# Altium footprint library Keebs.PcbLib: 219 footprints (part 8 of 14)
Each footprint in its own frame and in the unit in brackets; x right, y up, seen from the top. Pads: shape width x height; smd on the part's side, far side on the other; paste and mask are expansions set on the pad; w line width, h text height; cw(c..) or ccw(c..) is an arc to the next point about the centre after c.
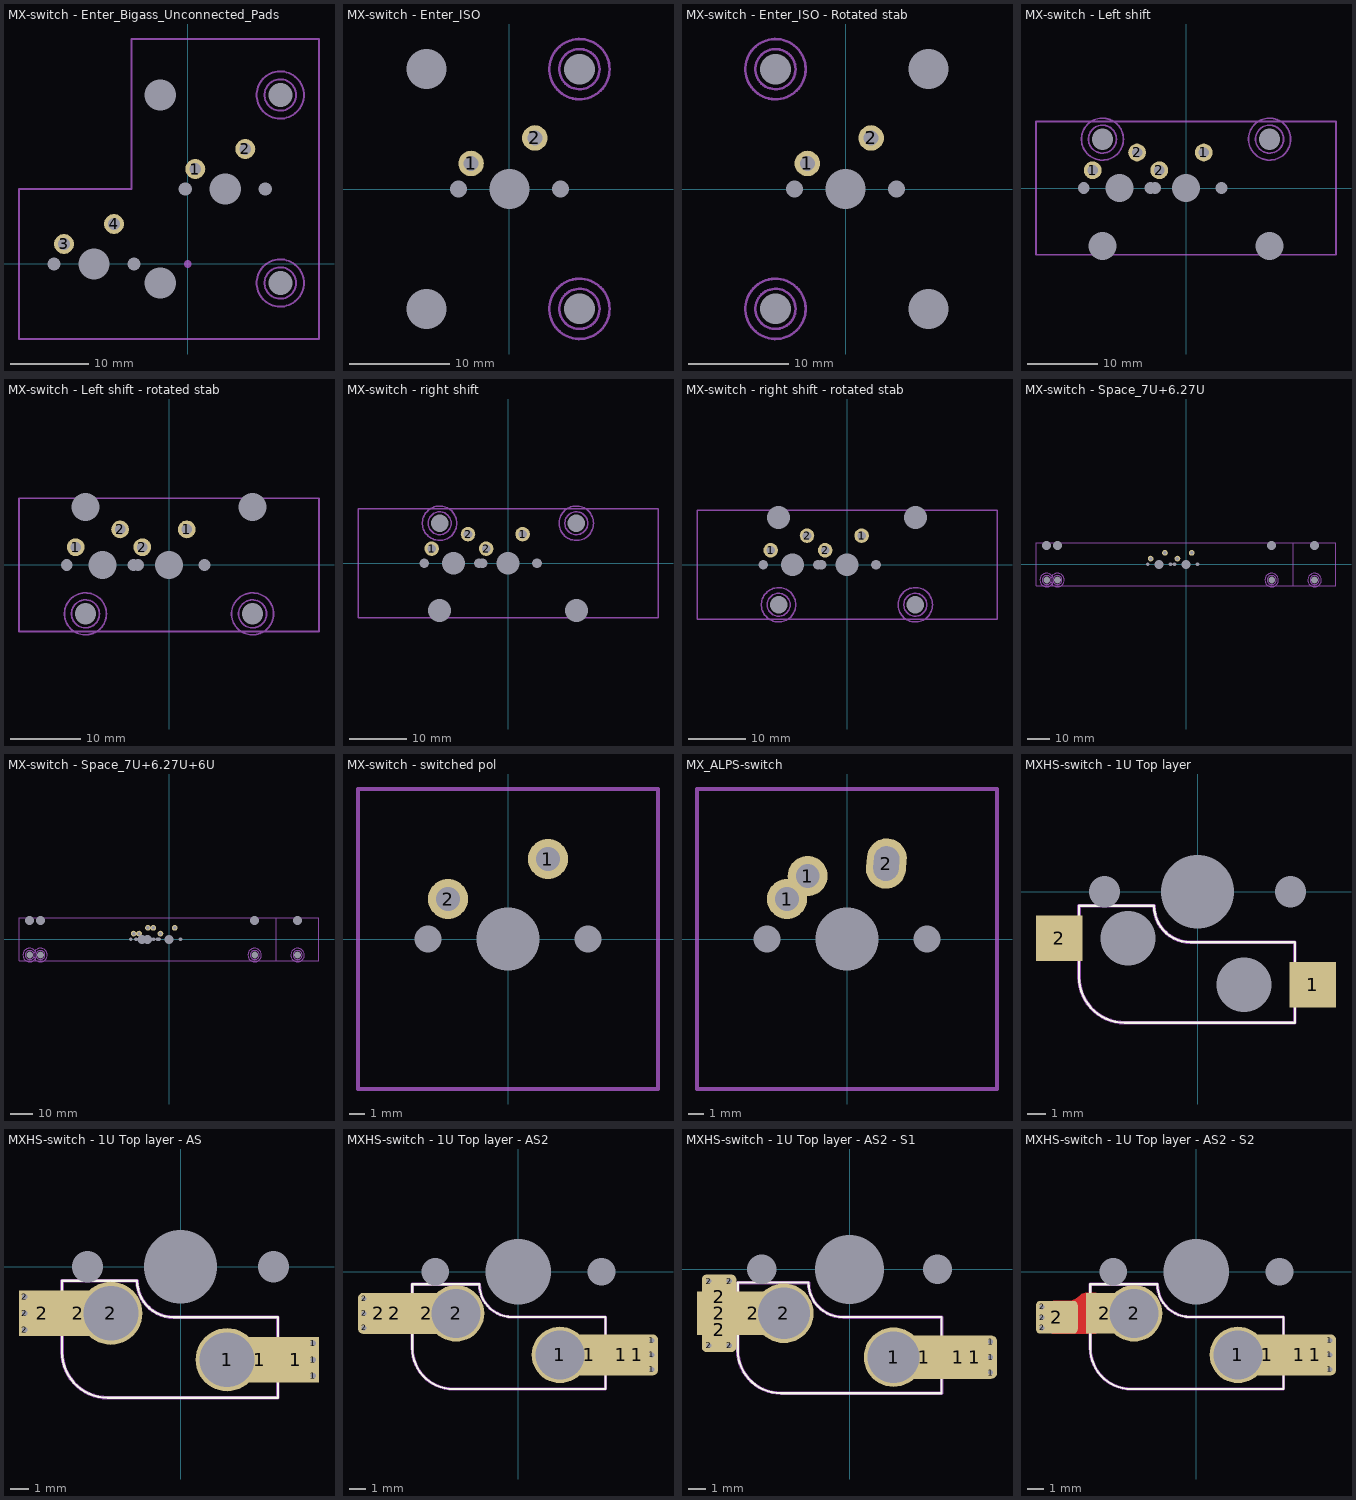
[diagram p7: the footprints below, top view; thin cyan lines are the x and y axes]

## MX-switch - Enter_Bigass_Unconnected_Pads [mm]
pads (20):
  round 2.54 hole 1.5 mask-0.5: 1(0.953,12.065) 2(7.302,14.605) 3(-15.716,2.54) 4(-9.366,5.08)
  round 1 hole 1.7 unplated: ""(-16.986,0) ""(-6.826,0) ""(-0.318,9.525) ""(9.842,9.525)
  round 1 hole 4 unplated: ""(-11.906,0) ""(4.763,9.525)
  round 1 on Mech13: ""(-11.906,0) ""(-11.906,0) ""(0,0) ""(0,0) ""(4.763,9.525) ""(4.763,9.525)
  round 1.524 hole 4 unplated: ""(-3.492,-2.413) ""(-3.492,21.463)
  round 1.524 hole 3.048 unplated: ""(11.747,-2.413) ""(11.747,21.463)
Mechanical 13:
  lines w0.254: -21.431,-9.525 -21.431,9.525 -7.144,9.525 -7.144,28.575 16.669,28.575 16.669,-9.525 -21.431,-9.525
  text ".Designator" at -3.683,-9.017 h0.7
Mechanical 15:
  circle w0.254: c11.747,21.463 r3
  circle w0.254: c11.747,21.463 r2
  circle w0.254: c11.747,-2.413 r3
  circle w0.254: c11.747,-2.413 r2

## MX-switch - Enter_ISO [mm]
pads (10):
  round 2.54 hole 1.5 mask-0.5: 1(-3.81,2.54) 2(2.54,5.08)
  round 1.524 hole 4 unplated: ""(-8.255,-11.938) ""(-8.255,11.938)
  round 1 hole 1.7 unplated: ""(-5.08,0) ""(5.08,0)
  round 1 hole 4 unplated: ""(0,0)
  round 1 on Mech13: ""(0,0)
  round 1.524 hole 3.048 unplated: ""(6.985,-11.938) ""(6.985,11.938)
Mechanical 13:
  text ".Designator" at -1.68,-7.73 h0.7
Mechanical 15:
  circle w0.254: c6.985,11.938 r3
  circle w0.254: c6.985,11.938 r2
  circle w0.254: c6.985,-11.938 r3
  circle w0.254: c6.985,-11.938 r2

## MX-switch - Enter_ISO - Rotated stab [mm]
pads (10):
  round 2.54 hole 1.5 mask-0.5: 1(-3.81,2.54) 2(2.54,5.08)
  round 1.524 hole 3.048 unplated: ""(-6.985,-11.938) ""(-6.985,11.938)
  round 1 hole 1.7 unplated: ""(-5.08,0) ""(5.08,0)
  round 1 hole 4 unplated: ""(0,0)
  round 1 on Mech13: ""(0,0)
  round 1.524 hole 4 unplated: ""(8.255,-11.938) ""(8.255,11.938)
Mechanical 13:
  text ".Designator" at -1.68,-7.73 h0.7
Mechanical 15:
  circle w0.254: c-6.985,-11.938 r3
  circle w0.254: c-6.985,-11.938 r2
  circle w0.254: c-6.985,11.938 r3
  circle w0.254: c-6.985,11.938 r2

## MX-switch - Left shift [mm]
pads (16):
  round 2.54 hole 1.5 mask-0.5: 1(-13.335,2.54) 1(2.54,5.08) 2(-6.985,5.08) 2(-3.81,2.54)
  round 1 hole 1.7 unplated: ""(-14.605,0) ""(-5.08,0) ""(-4.445,0) ""(5.08,0)
  round 1.524 hole 4 unplated: ""(-11.938,-8.255) ""(11.938,-8.255)
  round 1.524 hole 3.048 unplated: ""(-11.938,6.985) ""(11.938,6.985)
  round 1 hole 4 unplated: ""(-9.525,0) ""(0,0)
  round 1 on Mech13: ""(-9.525,0) ""(0,0)
Mechanical 13:
  lines w0.254: -21.431,-9.525 21.431,-9.525 21.431,9.525 -21.431,9.525 -21.431,-9.525
  text ".Designator" at -5.45,-3.925 h0.7
Mechanical 15:
  circle w0.254: c11.938,6.985 r3
  circle w0.254: c11.938,6.985 r2
  circle w0.254: c-11.938,6.985 r3
  circle w0.254: c-11.938,6.985 r2

## MX-switch - Left shift - rotated stab [mm]
pads (16):
  round 2.54 hole 1.5 mask-0.5: 1(-13.335,2.54) 1(2.54,5.08) 2(-6.985,5.08) 2(-3.81,2.54)
  round 1 hole 1.7 unplated: ""(-14.605,0) ""(-5.08,0) ""(-4.445,0) ""(5.08,0)
  round 1.524 hole 3.048 unplated: ""(-11.938,-6.985) ""(11.938,-6.985)
  round 1.524 hole 4 unplated: ""(-11.938,8.255) ""(11.938,8.255)
  round 1 hole 4 unplated: ""(-9.525,0) ""(0,0)
  round 1 on Mech13: ""(-9.525,0) ""(0,0)
Mechanical 13:
  lines w0.254: -21.431,-9.525 -21.431,9.525 21.431,9.525 21.431,-9.525 -21.431,-9.525
  text ".Designator" at -5.45,-3.925 h0.7
Mechanical 15:
  circle w0.254: c-11.938,-6.985 r2
  circle w0.254: c-11.938,-6.985 r3
  circle w0.254: c11.938,-6.985 r2
  circle w0.254: c11.938,-6.985 r3

## MX-switch - right shift [mm]
pads (16):
  round 2.54 hole 1.5 mask-0.5: 1(-13.335,2.54) 1(2.54,5.08) 2(-6.985,5.08) 2(-3.81,2.54)
  round 1 hole 1.7 unplated: ""(-14.605,0) ""(-5.08,0) ""(-4.445,0) ""(5.08,0)
  round 1.524 hole 4 unplated: ""(-11.938,-8.255) ""(11.938,-8.255)
  round 1.524 hole 3.048 unplated: ""(-11.938,6.985) ""(11.938,6.985)
  round 1 hole 4 unplated: ""(-9.525,0) ""(0,0)
  round 1 on Mech13: ""(-9.525,0) ""(0,0)
Mechanical 13:
  lines w0.254: -26.194,-9.525 26.194,-9.525 26.194,9.525 -26.194,9.525 -26.194,-9.525
  text ".Designator" at -4.3,-5.55 h0.7
Mechanical 15:
  circle w0.254: c11.938,6.985 r3
  circle w0.254: c11.938,6.985 r2
  circle w0.254: c-11.938,6.985 r3
  circle w0.254: c-11.938,6.985 r2

## MX-switch - right shift - rotated stab [mm]
pads (16):
  round 2.54 hole 1.5 mask-0.5: 1(-13.335,2.54) 1(2.54,5.08) 2(-6.985,5.08) 2(-3.81,2.54)
  round 1 hole 1.7 unplated: ""(-14.605,0) ""(-5.08,0) ""(-4.445,0) ""(5.08,0)
  round 1.524 hole 3.048 unplated: ""(-11.938,-6.985) ""(11.938,-6.985)
  round 1.524 hole 4 unplated: ""(-11.938,8.255) ""(11.938,8.255)
  round 1 hole 4 unplated: ""(-9.525,0) ""(0,0)
  round 1 on Mech13: ""(-9.525,0) ""(0,0)
Mechanical 13:
  lines w0.254: -26.194,-9.525 -26.194,9.525 26.194,9.525 26.194,-9.525 -26.194,-9.525
  text ".Designator" at -4.3,-5.55 h0.7
Mechanical 15:
  circle w0.254: c11.938,-6.985 r3
  circle w0.254: c11.938,-6.985 r2
  circle w0.254: c-11.938,-6.985 r3
  circle w0.254: c-11.938,-6.985 r2

## MX-switch - Space_7U+6.27U [mm]
pads (20):
  round 2.54 hole 1.5 mask-0.5: 1(-9.366,5.08) 1(-3.81,2.54) 2(-15.716,2.54) 2(2.54,5.08)
  round 1.524 hole 3.048 unplated: ""(-61.91,-6.985) ""(-57.15,-6.985) ""(38.09,-6.985) ""(57.15,-6.985)
  round 1.524 hole 4 unplated: ""(-61.91,8.255) ""(-57.15,8.255) ""(38.09,8.255) ""(57.15,8.255)
  round 1 hole 1.7 unplated: ""(-16.986,0) ""(-6.826,0) ""(-5.08,0) ""(5.08,0)
  round 1 hole 4 unplated: ""(-11.906,0) ""(0,0)
  round 1 on Mech13: ""(-11.906,0) ""(0,0)
Mechanical 13:
  lines w0.254: 47.621,-9.525 47.621,9.525 ; -66.675,-9.525 -66.675,9.525 66.675,9.525 66.675,-9.525 -66.675,-9.525
  text ".Designator" at 7.625,-2.4 h0.7
Mechanical 15:
  circle w0.254: c57.15,-6.985 r3
  circle w0.254: c57.15,-6.985 r2
  circle w0.254: c38.09,-6.985 r3
  circle w0.254: c38.09,-6.985 r2
  circle w0.254: c-57.15,-6.985 r3
  circle w0.254: c-57.15,-6.985 r2
  circle w0.254: c-61.91,-6.985 r3
  circle w0.254: c-61.91,-6.985 r2
  text "7U" at 65.831,-1.85 h1.52
  text "6.25U" at 46.265,-3.6 h1.52

## MX-switch - Space_7U+6.27U+6U [mm]
pads (25):
  round 2.54 hole 1.5 mask-0.5: 1(-9.366,5.08) 1(-6.981,5.08) 1(-3.81,2.54) 2(-15.716,2.54) 2(-13.331,2.54) 2(2.54,5.08)
  round 1.524 hole 3.048 unplated: ""(-61.91,-6.985) ""(-57.15,-6.985) ""(38.09,-6.985) ""(57.15,-6.985)
  round 1.524 hole 4 unplated: ""(-61.91,8.255) ""(-57.15,8.255) ""(38.09,8.255) ""(57.15,8.255)
  round 1 hole 1.7 unplated: ""(-16.986,0) ""(-14.601,0) ""(-6.826,0) ""(-5.08,0) ""(-4.441,0) ""(5.08,0)
  round 1 hole 4 unplated: ""(-11.906,0) ""(-9.521,0) ""(0,0)
  round 1 on Mech13: ""(-11.906,0) ""(0,0)
Mechanical 13:
  lines w0.254: 47.621,-9.525 47.621,9.525 ; -66.675,-9.525 -66.675,9.525 66.675,9.525 66.675,-9.525 -66.675,-9.525
  text ".Designator" at 7.625,-2.4 h0.7
Mechanical 15:
  circle w0.254: c57.15,-6.985 r3
  circle w0.254: c57.15,-6.985 r2
  circle w0.254: c38.09,-6.985 r3
  circle w0.254: c38.09,-6.985 r2
  circle w0.254: c-57.15,-6.985 r3
  circle w0.254: c-57.15,-6.985 r2
  circle w0.254: c-61.91,-6.985 r3
  circle w0.254: c-61.91,-6.985 r2
  text "7U" at 65.831,-1.85 h1.52
  text "6.25U" at 46.265,-3.6 h1.52

## MX-switch - switched pol [mm]
pads (5):
  round 2.54 hole 1.5 mask-0.5: 1(2.54,5.08) 2(-3.81,2.54)
  round 1 hole 1.7 unplated: ""(-5.08,0) ""(5.08,0)
  round 1 hole 4 unplated: ""(0,0)
Mechanical 13:
  lines w0.254: -9.525,-9.525 9.525,-9.525 9.525,9.525 -9.525,9.525 -9.525,-9.525
  text ".Designator" at -3.575,-3.7 h0.7

## MX_ALPS-switch [mm]
pads (6):
  round 2.54 hole 1.5 mask-0.5: 1(-3.81,2.54) 1(-2.5,4)
  oval 3.2x2.54 hole 1.6 slot 2.2 at 85 deg rot 85 mask-1: 2(2.5,4.79)
  round 1 hole 1.7 unplated: ""(-5.08,0) ""(5.08,0)
  round 1 hole 4 unplated: ""(0,0)
Mechanical 13:
  lines w0.254: -9.525,-9.525 9.525,-9.525 9.525,9.525 -9.525,9.525 -9.525,-9.525
  text ".Designator" at -3.575,-3.7 h0.7

## MXHS-switch - 1U Top layer [mm]
pads (7):
  rect 2.55x2.5 smd: 1(6.29,-5.08) 2(-7.56,-2.54)
  round 1 hole 1.7 unplated: ""(-5.08,0) ""(5.08,0)
  round 0 hole 3 unplated: ""(-3.81,-2.54) ""(2.54,-5.08)
  round 1 hole 4 unplated: ""(0,0)
Top Overlay:
  lines w0.127: -6.481,-4.662 ccw(c-3.981,-4.662) -3.981,-7.162 5.319,-7.162 5.319,-2.762 -0.381,-2.762 cw(c-0.381,-0.762) -2.381,-0.762 -6.481,-0.762 -6.481,-4.662
Mechanical 13:
  lines w0.1: -0.5,0 0.5,0 ; 0,-0.5 0,0.5
  lines w0.2: -6.481,-4.662 ccw(c-3.981,-4.662) -3.981,-7.162 5.319,-7.162 5.319,-2.762 -0.381,-2.762 cw(c-0.381,-0.762) -2.381,-0.762 -6.481,-0.762 -6.481,-4.662
  text ".Designator" at 3.048,-4.826 h0.7
Mechanical 15:
  lines w0.1: -1.77,0 -0.77,0 ; 0,-0.5 0,0.5
  lines w0.127: -6.481,-4.662 ccw(c-3.981,-4.662) -3.981,-7.162 5.319,-7.162 5.319,-2.762 -0.381,-2.762 cw(c-0.381,-0.762) -2.381,-0.762 -6.481,-0.762 -6.481,-4.662
3D body "kailh_socket_mx.stp": height -0.35, standoff -3.4, extent -7.9,-6.745 6.6,-0.855

## MXHS-switch - 1U Top layer - AS [mm]
pads (15):
  round 3.45 hole 3 mask+0: 1(2.54,-5.08) 2(-3.81,-2.54)
  rect 2.55x2.5 smd paste-40 mask+0.102: 1(4.318,-5.08) 2(-5.588,-2.54)
  rect 2.55x2.5 smd: 1(6.29,-5.08) 2(-7.56,-2.54)
  round 0.6 hole 0.3 mask+0.102: 1(7.25,-5.969) 1(7.25,-5.08) 1(7.25,-4.191) 2(-8.52,-3.429) 2(-8.52,-2.54) 2(-8.52,-1.651)
  round 1 hole 1.7 unplated: ""(-5.08,0) ""(5.08,0)
  round 1 hole 4 unplated: ""(0,0)
Top Overlay:
  lines w0.127: -6.481,-4.662 ccw(c-3.981,-4.662) -3.981,-7.162 5.319,-7.162 5.319,-2.762 -0.381,-2.762 cw(c-0.381,-0.762) -2.381,-0.762 -6.481,-0.762 -6.481,-4.662
Mechanical 13:
  lines w0.1: -0.5,0 0.5,0 ; 0,-0.5 0,0.5
  lines w0.2: -6.481,-4.662 ccw(c-3.981,-4.662) -3.981,-7.162 5.319,-7.162 5.319,-2.762 -0.381,-2.762 cw(c-0.381,-0.762) -2.381,-0.762 -6.481,-0.762 -6.481,-4.662
  text ".Designator" at 3.048,-4.826 h0.7
Mechanical 15:
  lines w0.1: -1.77,0 -0.77,0 ; 0,-0.5 0,0.5
  lines w0.127: -6.481,-4.662 ccw(c-3.981,-4.662) -3.981,-7.162 5.319,-7.162 5.319,-2.762 -0.381,-2.762 cw(c-0.381,-0.762) -2.381,-0.762 -6.481,-0.762 -6.481,-4.662
3D body "kailh_socket_mx.stp": height -0.35, standoff -3.4, extent -7.9,-6.745 6.6,-0.855

## MXHS-switch - 1U Top layer - AS2 [mm]
pads (17):
  round 3.45 hole 3 mask+0: 1(2.54,-5.08) 2(-3.81,-2.54)
  rect 2.55x2.5 smd paste-40 mask+0.102: 1(4.318,-5.08) 2(-5.588,-2.54)
  rect 2.55x2.5 smd: 1(6.29,-5.08) 2(-7.56,-2.54)
  rrect25% 2.55x2.5 smd paste-40 mask+0.102: 1(7.25,-5.08) 2(-8.52,-2.54)
  round 0.6 hole 0.3 mask+0.102: 1(8.15,-5.969) 1(8.15,-5.08) 1(8.15,-4.191) 2(-9.42,-3.429) 2(-9.42,-2.54) 2(-9.42,-1.651)
  round 1 hole 1.7 unplated: ""(-5.08,0) ""(5.08,0)
  round 1 hole 4 unplated: ""(0,0)
Top Overlay:
  lines w0.127: -6.481,-4.662 ccw(c-3.981,-4.662) -3.981,-7.162 5.319,-7.162 5.319,-2.762 -0.381,-2.762 cw(c-0.381,-0.762) -2.381,-0.762 -6.481,-0.762 -6.481,-4.662
Mechanical 13:
  lines w0.1: -0.5,0 0.5,0 ; 0,-0.5 0,0.5
  lines w0.2: -6.481,-4.662 ccw(c-3.981,-4.662) -3.981,-7.162 5.319,-7.162 5.319,-2.762 -0.381,-2.762 cw(c-0.381,-0.762) -2.381,-0.762 -6.481,-0.762 -6.481,-4.662
  text ".Designator" at 3.048,-4.826 h0.7
Mechanical 15:
  lines w0.1: -1.77,0 -0.77,0 ; 0,-0.5 0,0.5
  lines w0.127: -6.481,-4.662 ccw(c-3.981,-4.662) -3.981,-7.162 5.319,-7.162 5.319,-2.762 -0.381,-2.762 cw(c-0.381,-0.762) -2.381,-0.762 -6.481,-0.762 -6.481,-4.662
3D body "kailh_socket_mx.stp": height -0.35, standoff -3.4, extent -7.9,-6.745 6.6,-0.855

## MXHS-switch - 1U Top layer - AS2 - S1 [mm]
pads (19):
  round 3.45 hole 3 mask+0: 1(2.54,-5.08) 2(-3.81,-2.54)
  rect 2.55x2.5 smd paste-40 mask+0.102: 1(4.318,-5.08) 2(-5.588,-2.54)
  rect 2.55x2.5 smd: 1(6.29,-5.08) 2(-7.56,-2.54)
  rrect25% 2.55x2.5 smd paste-40 mask+0.102: 1(7.25,-5.08)
  round 0.6 hole 0.3 mask+0.102: 1(8.15,-5.969) 1(8.15,-5.08) 1(8.15,-4.191) 2(-8.149,-4.4) 2(-8.149,-0.68) 2(-6.971,-4.4) 2(-6.971,-0.68)
  rrect25% 2x2.55 smd paste-40 mask+0.102: 2(-7.56,-3.5) 2(-7.56,-1.58)
  round 1 hole 1.7 unplated: ""(-5.08,0) ""(5.08,0)
  round 1 hole 4 unplated: ""(0,0)
Top Overlay:
  lines w0.127: -6.481,-4.662 ccw(c-3.981,-4.662) -3.981,-7.162 5.319,-7.162 5.319,-2.762 -0.381,-2.762 cw(c-0.381,-0.762) -2.381,-0.762 -6.481,-0.762 -6.481,-4.662
Mechanical 13:
  lines w0.1: -0.5,0 0.5,0 ; 0,-0.5 0,0.5
  lines w0.2: -6.481,-4.662 ccw(c-3.981,-4.662) -3.981,-7.162 5.319,-7.162 5.319,-2.762 -0.381,-2.762 cw(c-0.381,-0.762) -2.381,-0.762 -6.481,-0.762 -6.481,-4.662
  text ".Designator" at 3.048,-4.826 h0.7
Mechanical 15:
  lines w0.1: -1.77,0 -0.77,0 ; 0,-0.5 0,0.5
  lines w0.127: -6.481,-4.662 ccw(c-3.981,-4.662) -3.981,-7.162 5.319,-7.162 5.319,-2.762 -0.381,-2.762 cw(c-0.381,-0.762) -2.381,-0.762 -6.481,-0.762 -6.481,-4.662
3D body "kailh_socket_mx.stp": height -0.35, standoff -3.4, extent -7.9,-6.745 6.6,-0.855

## MXHS-switch - 1U Top layer - AS2 - S2 [mm] "Adjusted footprint to prevent conflict with tray mount mounting hole"
pads (16):
  round 3.45 hole 3 mask+0: 1(2.54,-5.08) 2(-3.81,-2.54)
  rect 2.55x2.5 smd paste-40 mask+0.102: 1(4.318,-5.08)
  rect 2.55x2.5 smd: 1(6.29,-5.08)
  rrect25% 2.55x2.5 smd paste-40 mask+0.102: 1(7.25,-5.08)
  round 0.6 hole 0.3 mask+0.102: 1(8.15,-5.969) 1(8.15,-5.08) 1(8.15,-4.191) 2(-9.42,-3.429) 2(-9.42,-2.795) 2(-9.42,-2.15)
  rrect25% 2.55x2 smd paste-40 mask+0.102: 2(-8.52,-2.78)
  rect 2.3x2.492 smd paste-40 mask+0.102: 2(-5.588,-2.54)
  round 1 hole 1.7 unplated: ""(-5.08,0) ""(5.08,0)
  round 1 hole 4 unplated: ""(0,0)
Top Layer:
  region: -6.121,-1.295 -6.121,-3.785 -8.839,-3.785 -8.839,-1.905 -8.839,-1.88 -8.82,-1.833 -8.784,-1.797 -8.737,-1.778 -8.712,-1.778 -7.891,-1.778 -7.785,-1.773 -7.577,-1.731 -7.38,-1.65 -7.204,-1.532 -7.125,-1.46 -7.085,-1.421 -6.993,-1.36 -6.891,-1.317 -6.782,-1.295 -6.726,-1.295
Top Overlay:
  lines w0.127: -6.481,-4.662 ccw(c-3.981,-4.662) -3.981,-7.162 5.319,-7.162 5.319,-2.762 -0.381,-2.762 cw(c-0.381,-0.762) -2.381,-0.762 -6.481,-0.762 -6.481,-4.662
Mechanical 13:
  lines w0.1: -0.5,0 0.5,0 ; 0,-0.5 0,0.5
  lines w0.2: -6.481,-4.662 ccw(c-3.981,-4.662) -3.981,-7.162 5.319,-7.162 5.319,-2.762 -0.381,-2.762 cw(c-0.381,-0.762) -2.381,-0.762 -6.481,-0.762 -6.481,-4.662
  text ".Designator" at 3.048,-4.826 h0.7
Mechanical 15:
  lines w0.1: -1.77,0 -0.77,0 ; 0,-0.5 0,0.5
  lines w0.127: -6.481,-4.662 ccw(c-3.981,-4.662) -3.981,-7.162 5.319,-7.162 5.319,-2.762 -0.381,-2.762 cw(c-0.381,-0.762) -2.381,-0.762 -6.481,-0.762 -6.481,-4.662
3D body "kailh_socket_mx.stp": height -0.35, standoff -3.4, extent -7.9,-6.745 6.6,-0.855